# Altium footprint library 电容.PcbLib: 19 footprints (part 1 of 2)
Each footprint in its own frame and in the unit in brackets; x right, y up, seen from the top. Pads: shape width x height; smd on the part's side, far side on the other; paste and mask are expansions set on the pad; w line width, h text height; cw(c..) or ccw(c..) is an arc to the next point about the centre after c.
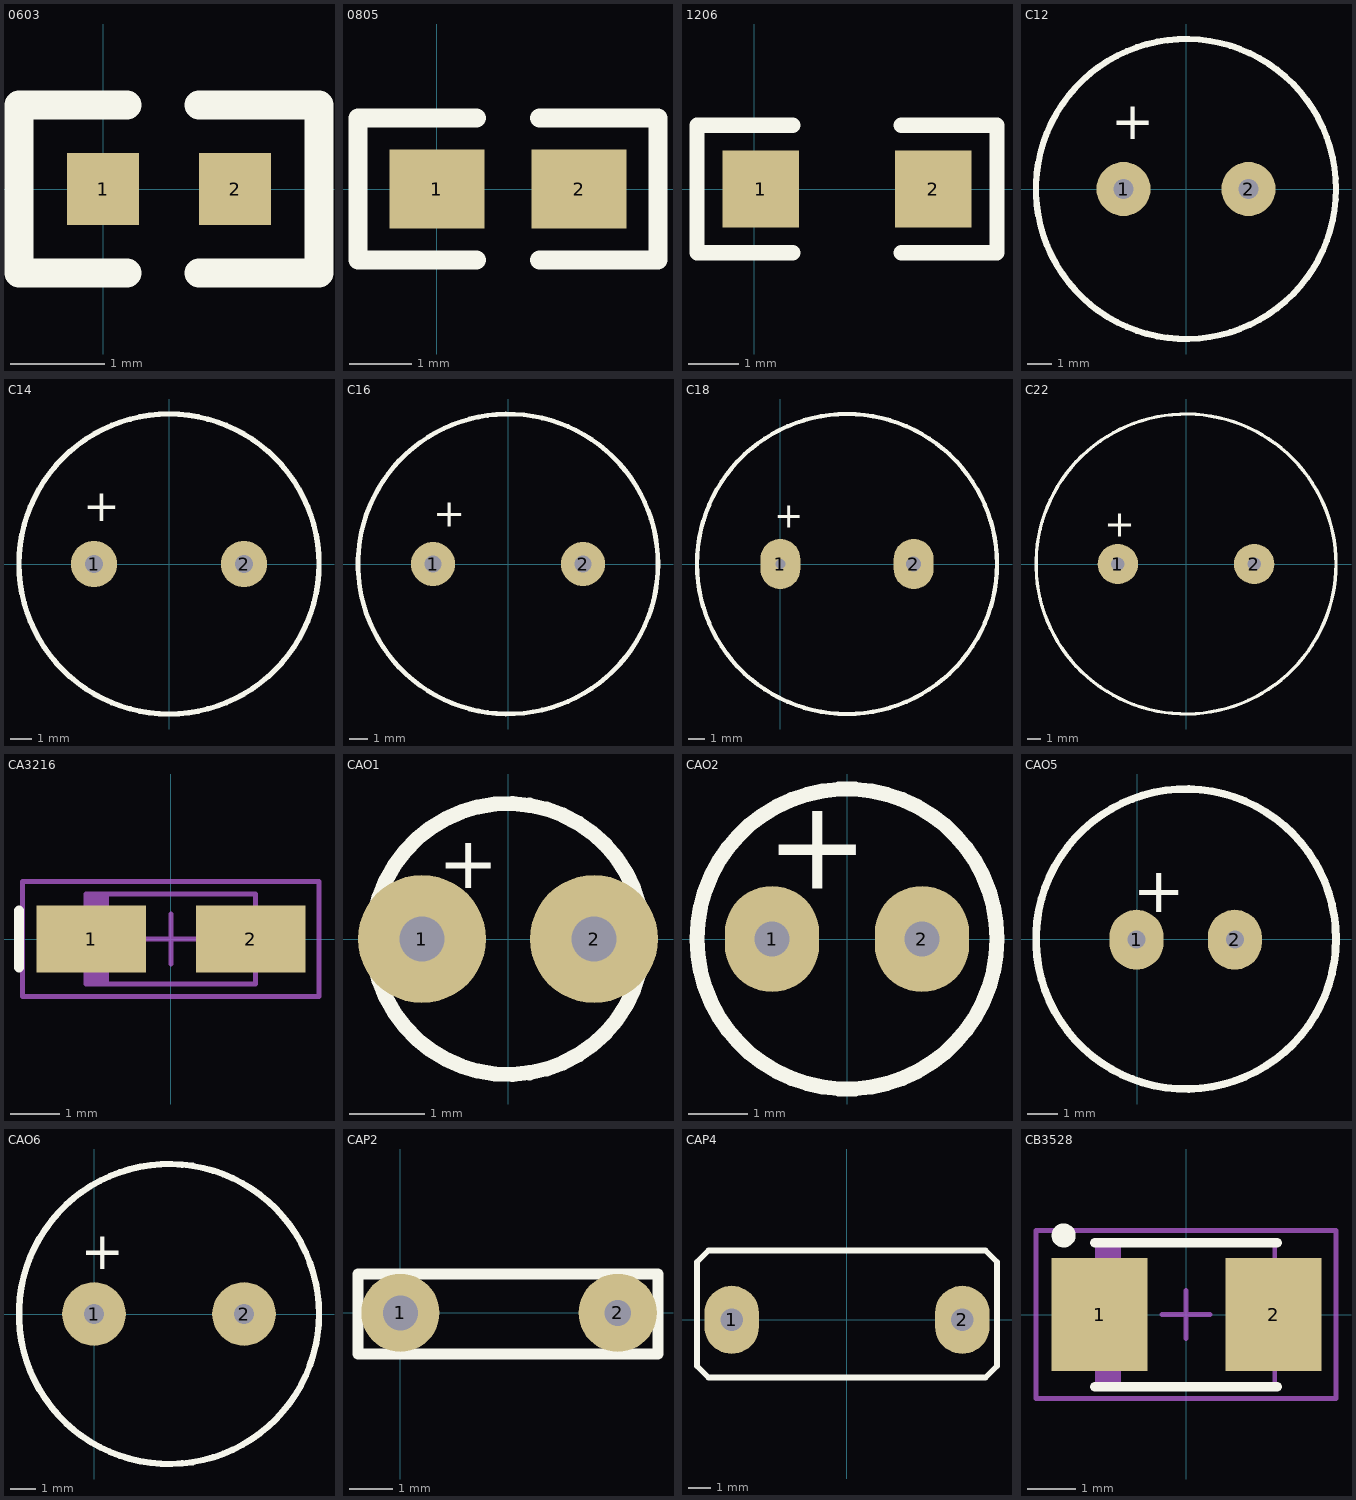
[diagram p0: the footprints below, top view; thin cyan lines are the x and y axes]

## 0603 [mil]
pads (2):
  rect 30x30 smd: 1(0,0) 2(55,0)
Top Overlay:
  lines w12: 10,-35 -35,-35 -35,35 10,35 ; 40,-35 90,-35 90,35 40,35

## 0805 [mil]
pads (2):
  rect 60x50 smd: 1(0,0) 2(90,0)
Top Overlay:
  lines w12: 25,-45 -50,-45 -50,45 25,45 ; 65,-45 140,-45 140,45 65,45

## 1206 [mil]
pads (2):
  rect 60x60 smd: 1(5,0) 2(140,0)
Top Overlay:
  lines w12: 30,-50 -45,-50 -45,50 30,50 ; 115,-50 190,-50 190,50 115,50

## C12 [mm]
pads (2):
  round 2.2 hole 0.8: 1(-2.54,0) 2(2.54,0)
Top Overlay:
  circle w0.254: c0,0 r6.096
  text "+" at -3.048,2.032 h1.52

## C14 [mm]
pads (2):
  round 2.2 hole 0.85: 1(-3.556,0) 2(3.556,0)
Top Overlay:
  circle w0.254: c0,0 r7.112
  text "+" at -4.064,2.032 h1.52

## C16 [mm]
pads (2):
  round 2.4 hole 0.9: 1(-4.064,0) 2(4.064,0)
Top Overlay:
  circle w0.254: c0,0 r8.128
  text "+" at -4.064,2.032 h1.52

## C18 [mm]
pads (2):
  oval 2.4x3 hole 0.6: 1(0,0)
  oval 2.4x3 hole 0.9: 2(8,0)
Top Overlay:
  circle w0.254: c4,0 r9
  text "+" at -0.375,2.175 h1.52

## C22 [mm]
pads (2):
  round 3 hole 1: 1(-5.08,0) 2(5.08,0)
Top Overlay:
  circle w0.254: c0,0 r11.176
  text "+" at -6.096,2.032 h2

## CA3216 [mm] "Molded Capacitor, 2-Leads, Body 3.3x1.7mm, IPC Medium Density"
height 1.8
pads (2):
  rect 2.2x1.35 smd: 1(-1.601,0) 2(1.6,0)
Top Overlay:
  lines w0.2: -3.05,-0.575 -3.05,0.575
Mechanical 13:
  rectangle: -1.7,-0.9 -1.243,0.9
  lines w0.1: -1.7,-0.9 -1.7,0.9 1.7,0.9 1.7,-0.9 -1.7,-0.9
Mechanical 15:
  lines w0.1: -0.5,0 0.5,0 ; 0,-0.5 0,0.5 ; -2.975,-1.15 -2.975,1.15 2.975,1.15 2.975,-1.15 -2.975,-1.15
3D body: height 1.8, standoff 0, extent -1.7,-0.9 1.7,0.9

## CAO1 [mm]
pads (2):
  round 1.7 hole 0.6: 1(-1.143,0) 2(1.143,0)
Top Overlay:
  circle w0.2: c0,0 r1.8
  text "+" at -0.925,0.675 h0.7

## CAO2 [mm]
pads (2):
  oval 1.6x1.8 hole 0.6: 1(-1.27,0) 2(1.27,0)
Top Overlay:
  circle w0.254: c0,0 r2.54
  text "+" at -1.375,0.85 h1.52

## CAO5 [mm]
pads (2):
  oval 1.8x2 hole 0.6: 1(-0.025,-0.025) 2(3.25,-0.025)
Top Overlay:
  circle w0.254: c1.625,0 r5
  text "+" at -0.15,0.9 h1.52

## CAO6 [mm]
pads (2):
  round 2.54 hole 0.8: 1(0,0) 2(6,0)
Top Overlay:
  circle w0.254: c3,0 r6
  text "+" at -0.525,1.8 h1.52

## CAP2 [mm]
pads (2):
  round 1.8 hole 0.8: 1(0,0)
  round 1.8 hole 0.6: 2(5,0)
Top Overlay:
  lines w0.254: -0.975,-0.95 -0.975,0.9 5.925,0.9 5.925,-0.95 0,-0.95 -0.7,-0.95 -0.975,-0.95

## CAP4 [mm]
pads (2):
  oval 2.4x3 hole 1: 1(-5.08,0) 2(5.08,0)
Top Overlay:
  lines w0.254: -6.604,-2.032 -6.604,2.54 -6.096,3.048 6.096,3.048 6.604,2.54 6.604,-2.032 6.096,-2.54 -6.096,-2.54 -6.604,-2.032

## CB3528 [mm] "Molded Capacitor, 2-Leads, Body 3.6x2.9mm, IPC Medium Density"
height 2.1
pads (2):
  rect 2x2.35 smd: 1(-1.802,0) 2(1.827,0)
Top Overlay:
  circle w0.25: c-2.55,1.65 r0.125
  lines w0.2: -1.9,-1.5 1.9,-1.5 ; -1.9,1.5 1.9,1.5
Mechanical 13:
  rectangle: -1.85,-1.5 -1.352,1.5
  lines w0.1: -1.85,-1.5 -1.85,1.5 1.85,1.5 1.85,-1.5 -1.85,-1.5
Mechanical 15:
  lines w0.1: -0.5,0 0.5,0 ; 0,-0.5 0,0.5 ; -3.125,-1.75 -3.125,1.75 3.125,1.75 3.125,-1.75 -3.125,-1.75
3D body: height 2.1, standoff 0, extent -1.85,-1.5 1.85,1.5